# Altium footprint library Powerpcblib.PcbLib: 29 footprints (part 1 of 2)
Each footprint in its own frame and in the unit in brackets; x right, y up, seen from the top. Pads: shape width x height; smd on the part's side, far side on the other; paste and mask are expansions set on the pad; w line width, h text height; cw(c..) or ccw(c..) is an arc to the next point about the centre after c.
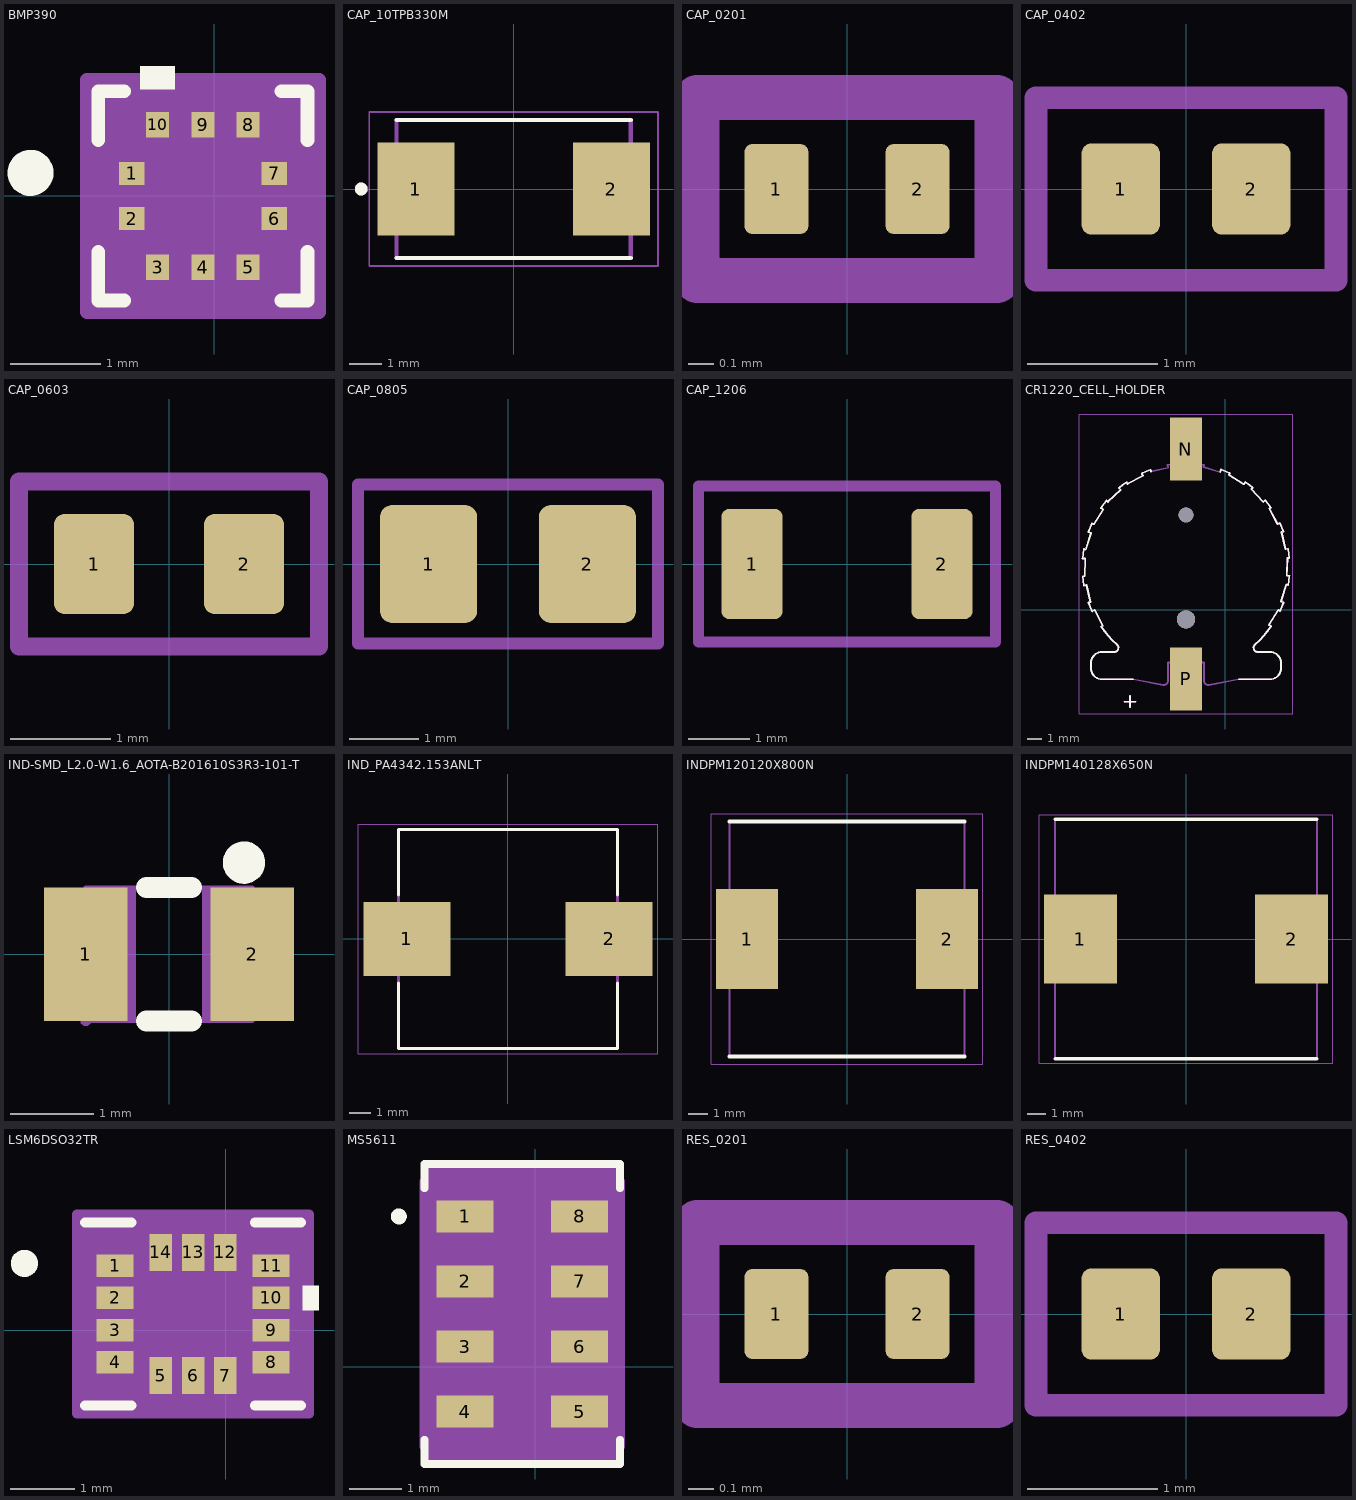
[diagram p0: the footprints below, top view; thin cyan lines are the x and y axes]

## BMP390 [mil]
pads (10):
  rect 11x10 smd paste+0 mask+0: 1(-36,9.84) 2(-36,-9.84) 6(26,-9.84) 7(26,9.84)
  rect 10x11 smd paste+0 mask+0: 3(-24.68,-31) 4(-5,-31) 5(14.69,-31) 8(14.69,31) 9(-5,31) 10(-24.68,31)
Top Overlay:
  circle w10: c-80,10 r5
  region: -17.18,46.5 -32.19,46.5 -32.19,56.5 -17.18,56.5
  lines w6: -50.5,-24.36 -50.5,-45.5 -39.2,-45.5 ; -50.5,24.36 -50.5,45.5 -39.2,45.5 ; 29.2,-45.5 40.5,-45.5 40.5,-24.36 ; 29.2,45.5 40.5,45.5 40.5,24.36
  text ".Designator" at -55,70 h10
Mechanical 13:
  lines w1: -45.5,-9.5 4.5,40.5 ; -45.5,-40.5 35.5,-40.5 35.5,40.5 -45.5,40.5 -45.5,-40.5 ; -45.5,-14.84 -45.5,-4.84 -41.5,-4.84 -41.5,-14.84 -45.5,-14.84 ; -45.5,4.84 -45.5,14.84 -41.5,14.84 -41.5,4.84 -45.5,4.84 ; -29.68,-40.5 -19.68,-40.5 -19.68,-36.5 -29.68,-36.5 -29.68,-40.5 ; -29.68,36.5 -19.68,36.5 -19.68,40.5 -29.68,40.5 -29.68,36.5 ; -10,-40.5 0,-40.5 0,-36.5 -10,-36.5 -10,-40.5 ; -10,36.5 0,36.5 0,40.5 -10,40.5 -10,36.5 ; 9.69,-40.5 19.68,-40.5 19.68,-36.5 9.69,-36.5 9.69,-40.5 ; 9.69,36.5 19.68,36.5 19.68,40.5 9.69,40.5 9.69,36.5 ; 31.5,-14.84 35.5,-14.84 35.5,-4.84 31.5,-4.84 31.5,-14.84 ; 31.5,4.84 35.5,4.84 35.5,14.84 31.5,14.84 31.5,4.84
  text ".Designator" at -55,70 h10
Mechanical 15:
  region: -39.69,-50.5 -55.5,-50.5 -55.5,-24.84 -55.5,24.84 -55.5,50.5 -39.69,50.5 29.68,50.5 45.5,50.5 45.5,24.84 45.5,-24.84 45.5,-50.5 29.68,-50.5
  lines w6: -55.5,-50.5 -55.5,-24.84 -55.5,24.84 -55.5,50.5 -39.69,50.5 29.68,50.5 45.5,50.5 45.5,24.84 45.5,-24.84 45.5,-50.5 29.68,-50.5 -39.69,-50.5 -55.5,-50.5
3D body "10LGA_2X2X0p75_BOS.step": height 32.09, standoff 0, extent -45.51,-40.51 35.51,40.51

## CAP_10TPB330M [mm]
pads (2):
  rect 2.4x2.9 smd: 1(-3.05,0) 2(3.05,0)
Top Overlay:
  circle w0.2: c-4.75,0 r0.1
  lines w0.127: -3.65,-2.15 3.65,-2.15 ; -3.65,2.15 3.65,2.15
Mechanical 13:
  circle w0.2: c-4.75,0 r0.1
  lines w0.127: -3.65,-2.15 3.65,-2.15 3.65,2.15 -3.65,2.15 -3.65,-2.15
Mechanical 15:
  lines w0.05: -4.5,-2.4 4.5,-2.4 4.5,2.4 -4.5,2.4 -4.5,-2.4

## CAP_0201 [mm]
pads (2):
  rrect25% 0.25x0.35 smd mask+0.05: 1(-0.275,0) 2(0.275,0)
Mechanical 13:
  lines w0.175: -0.584,-0.356 0.584,-0.356 0.584,0.356 -0.584,0.356 -0.584,-0.356
  text "'.Designator'" at -5.665,-0.417 h1
3D body "C0201.stp": height 0.34, standoff 0.01, extent -0.315,-0.166 0.315,0.164

## CAP_0402 [mm]
pads (2):
  rrect25% 0.6x0.7 smd: 1(-0.5,0) 2(0.5,0)
Mechanical 13:
  lines w0.175: -1.15,-0.7 1.15,-0.7 1.15,0.7 -1.15,0.7 -1.15,-0.7
  text "'.Designator'" at -5.665,-0.29 h1
3D body "C0402.step": height 0.37, standoff 0.01, extent -0.5,-0.265 0.5,0.265

## CAP_0603 [mm]
pads (2):
  rrect25% 0.8x1 smd: 1(-0.75,0) 2(0.75,0)
Mechanical 13:
  lines w0.175: -1.5,-0.825 -1.5,0.825 1.5,0.825 1.5,-0.825 -1.5,-0.825
  text "'.Designator'" at -5.665,-0.417 h1
3D body "C0603.step": height 0.51, standoff 0.01, extent -0.8,-0.4 0.8,0.4

## CAP_0805 [mm]
pads (2):
  rrect25% 1.4x1.7 smd: 1(-1.143,0) 2(1.143,0)
Mechanical 13:
  lines w0.175: -2.159,-1.143 -2.159,1.143 2.159,1.143 2.159,-1.143 -2.159,-1.143
  text "'.Designator'" at -5.665,-0.417 h1
3D body "C0805.stp": height 1.01, standoff 0.01, extent -1.15,-0.762 1.15,0.788

## CAP_1206 [mm]
pads (2):
  rrect25% 1x1.8 smd: 1(-1.55,0) 2(1.55,0)
Mechanical 13:
  lines w0.175: -2.425,-1.275 -2.425,1.275 2.425,1.275 2.425,-1.275 -2.425,-1.275
  text "'.Designator'" at -5.665,-0.417 h1
3D body "C1206.step": height 0.94, standoff 0, extent -1.6,-0.8 1.6,0.8

## CR1220_CELL_HOLDER [mm]
pads (4):
  rect 2.3x4.5 smd: N(-2.794,11.473) P(-2.794,-4.927)
  round 1.3 hole 1.3 unplated: ""(-2.794,-0.677)
  round 1.05 hole 1.05 unplated: ""(-2.794,6.773)
Top Overlay:
  lines w0.127: -10.168,3.663 -9.974,3.656 -10.023,2.399 -10.166,2.405 ; -10.166,2.403 ccw(c-2.794,3.048) -10.082,1.763 ; -10.166,3.693 cw(c-2.794,3.048) -10.082,4.333 ; -10.081,4.335 -9.944,4.293 -9.572,5.494 -9.758,5.551 ; -10.076,1.733 -9.887,1.776 -9.608,0.55 -9.748,0.518 ; -9.748,0.517 ccw(c-2.794,3.048) -9.501,-0.079 ; -9.748,5.579 cw(c-2.794,3.048) -9.501,6.175 ; -9.5,6.178 -9.378,6.101 -8.708,7.165 -8.873,7.268 ; -9.488,-0.107 -9.316,-0.017 -8.73,-1.129 -8.856,-1.195 ; -8.856,-1.196 ccw(c-2.794,3.048) -7.746,-2.451 ; -8.856,7.292 cw(c-2.794,3.048) -8.463,7.805 ; -8.461,7.807 -8.364,7.702 -7.441,8.556 -7.573,8.698 ; -7.715,-2.479 cw(c-7.915,-2.702) -7.915,-3.002 -8.778,-3.002 ccw(c-8.778,-3.802) -9.578,-3.802 -9.578,-4.152 ccw(c-8.778,-4.152) -8.778,-4.952 -6.558,-4.952 ; -7.551,8.717 cw(c-2.794,3.048) -7.038,9.11 ; -7.194,-6.552 -6.394,-6.552 ; -7.036,9.111 -6.969,8.985 -5.857,9.571 -5.948,9.742 ; -6.794,-6.952 -6.794,-6.152 ; -5.921,9.755 cw(c-2.794,3.048) -5.325,10.002 ; -5.322,10.003 -5.291,9.864 ; -0.347,9.828 -0.29,10.012 ; -0.263,10.002 cw(c-2.794,3.048) 0.333,9.755 ; 0.336,9.753 0.26,9.634 1.324,8.964 1.427,9.126 ; 0.97,-4.952 3.19,-4.952 ccw(c3.19,-4.152) 3.99,-4.152 3.99,-3.802 ccw(c3.19,-3.802) 3.19,-3.002 2.327,-3.002 cw(c2.327,-2.702) 2.127,-2.479 ; 1.45,9.11 cw(c-2.794,3.048) 1.963,8.717 ; 1.965,8.715 1.861,8.619 2.715,7.697 2.856,7.827 ; 2.158,-2.451 ccw(c-2.794,3.048) 3.268,-1.196 ; 2.875,7.805 cw(c-2.794,3.048) 3.268,7.292 ; 3.269,7.291 3.144,7.225 3.731,6.113 3.9,6.202 ; 3.285,-1.171 3.123,-1.069 3.793,-0.005 3.912,-0.08 ; 3.913,-0.079 ccw(c-2.794,3.048) 4.16,0.517 ; 3.913,6.175 cw(c-2.794,3.048) 4.16,5.579 ; 4.16,5.577 4.023,5.546 4.301,4.32 4.488,4.362 ; 4.17,0.546 3.987,0.602 4.359,1.803 4.493,1.762 ; 4.494,1.763 ccw(c-2.794,3.048) 4.578,2.403 ; 4.494,4.333 cw(c-2.794,3.048) 4.578,3.693 ; 4.578,3.691 4.437,3.697 4.389,2.44 4.58,2.433
Mechanical 13:
  lines w0.127: -10.168,3.663 -9.974,3.656 -10.023,2.399 -10.166,2.405 ; -10.166,2.403 ccw(c-2.794,3.048) -10.082,1.763 ; -10.166,3.693 cw(c-2.794,3.048) -10.082,4.333 ; -10.081,4.335 -9.944,4.293 -9.572,5.494 -9.758,5.551 ; -10.076,1.733 -9.887,1.776 -9.608,0.55 -9.748,0.518 ; -9.748,0.517 ccw(c-2.794,3.048) -9.501,-0.079 ; -9.748,5.579 cw(c-2.794,3.048) -9.501,6.175 ; -9.5,6.178 -9.378,6.101 -8.708,7.165 -8.873,7.268 ; -9.488,-0.107 -9.316,-0.017 -8.73,-1.129 -8.856,-1.195 ; -8.856,-1.196 ccw(c-2.794,3.048) -7.746,-2.451 ; -8.856,7.292 cw(c-2.794,3.048) -8.463,7.805 ; -8.461,7.807 -8.364,7.702 -7.441,8.556 -7.573,8.698 ; -7.715,-2.479 cw(c-7.915,-2.702) -7.915,-3.002 -8.778,-3.002 ccw(c-8.778,-3.802) -9.578,-3.802 -9.578,-4.152 ccw(c-8.778,-4.152) -8.778,-4.952 -6.558,-4.952 -4.431,-5.352 ; -7.551,8.717 cw(c-2.794,3.048) -7.038,9.11 ; -7.194,-6.552 -6.394,-6.552 ; -7.036,9.111 -6.969,8.985 -5.857,9.571 -5.948,9.742 ; -6.794,-6.952 -6.794,-6.152 ; -5.921,9.755 cw(c-2.794,3.048) -5.325,10.002 ; -5.322,10.003 -5.291,9.864 -4.065,10.142 -4.107,10.331 ; -4.433,-5.352 ccw(c-4.376,-5.057) -4.076,-5.057 -4.076,-3.762 -1.512,-3.762 -1.512,-5.057 ccw(c-1.212,-5.057) -1.155,-5.352 ; -4.079,10.336 cw(c-2.794,3.048) -3.696,10.393 ; -3.694,10.378 -1.894,10.378 ; -1.892,10.393 cw(c-2.794,3.048) -1.509,10.336 ; -1.506,10.335 -1.548,10.199 -0.347,9.828 -0.29,10.012 ; -1.157,-5.352 0.97,-4.952 3.19,-4.952 ccw(c3.19,-4.152) 3.99,-4.152 3.99,-3.802 ccw(c3.19,-3.802) 3.19,-3.002 2.327,-3.002 cw(c2.327,-2.702) 2.127,-2.479 ; -0.263,10.002 cw(c-2.794,3.048) 0.333,9.755 ; 0.336,9.753 0.26,9.634 1.324,8.964 1.427,9.126 ; 1.45,9.11 cw(c-2.794,3.048) 1.963,8.717 ; 1.965,8.715 1.861,8.619 2.715,7.697 2.856,7.827 ; 2.158,-2.451 ccw(c-2.794,3.048) 3.268,-1.196 ; 2.875,7.805 cw(c-2.794,3.048) 3.268,7.292 ; 3.269,7.291 3.144,7.225 3.731,6.113 3.9,6.202 ; 3.285,-1.171 3.123,-1.069 3.793,-0.005 3.912,-0.08 ; 3.913,-0.079 ccw(c-2.794,3.048) 4.16,0.517 ; 3.913,6.175 cw(c-2.794,3.048) 4.16,5.579 ; 4.16,5.577 4.023,5.546 4.301,4.32 4.488,4.362 ; 4.17,0.546 3.987,0.602 4.359,1.803 4.493,1.762 ; 4.494,1.763 ccw(c-2.794,3.048) 4.578,2.403 ; 4.494,4.333 cw(c-2.794,3.048) 4.578,3.693 ; 4.578,3.691 4.437,3.697 4.389,2.44 4.58,2.433
Mechanical 15:
  lines w0.05: -10.418,-7.427 -10.418,13.973 4.83,13.973 4.83,-7.427 -10.418,-7.427
3D body "step_temp.STEP": height 4.25, standoff -0.95, extent -10.166,-6.552 4.578,12.648

## IND-SMD_L2.0-W1.6_AOTA-B201610S3R3-101-T [mm]
pads (2):
  rect 1x1.6 smd paste+0 mask+0.05: 1(-1,0) 2(1,0)
Top Overlay:
  circle w0.254: c0.9,1.1 r0.127
  lines w0.254: -0.269,-0.8 0.269,-0.8 ; -0.269,0.8 0.269,0.8
Mechanical 6:
  circle w0.254: c1,0.5 r0.127
Mechanical 15:
  region: -0.94,-0.8 -0.94,-0.825 -0.975,-0.86 -1.025,-0.86 -1.06,-0.825 -1.06,-0.8 -1.06,-0.775 -1.025,-0.74 -0.975,-0.74 -0.94,-0.775 -0.94,-0.8
  region: 0.4,0.8 1,0.8 1,-0.8 0.4,-0.8
  region: -1,0.8 -0.4,0.8 -0.4,-0.8 -1,-0.8
  lines w0.051: -1,-0.8 -1,0.8 1,0.8 1,-0.8 -1,-0.8

## IND_PA4342.153ANLT [mm]
height 4
pads (2):
  rect 4.1x3.5 smd: 1(-4.75,0) 2(4.75,0)
Top Overlay:
  lines w0.127: -5.15,-2.07 -5.15,-5.15 5.15,-5.15 5.15,-2.07 ; -5.15,2.07 -5.15,5.15 5.15,5.15 5.15,2.07
Mechanical 13:
  lines w0.127: -5.15,-5.15 5.15,-5.15 5.15,5.15 -5.15,5.15 -5.15,-5.15
Mechanical 15:
  lines w0.05: -7.05,-5.4 -7.05,5.4 7.05,5.4 7.05,-5.4 -7.05,-5.4

## INDPM120120X800N [mm]
pads (2):
  rect 3.15x5.1 smd: 1(-5.1,0) 2(5.1,0)
Top Overlay:
  lines w0.2: -6,-6 6,-6 ; -6,6 6,6
Mechanical 13:
  lines w0.1: -6,-6 -6,6 6,6 6,-6 -6,-6
Mechanical 15:
  lines w0.05: -6.925,-6.4 -6.925,6.4 6.925,6.4 6.925,-6.4 -6.925,-6.4
3D body "CDRH127_LDNP-150MC.stp": height 8, standoff 0, extent -6,-6 6,6

## INDPM140128X650N [mm]
pads (2):
  rect 3.9x4.75 smd: 1(-5.65,0) 2(5.65,0)
Top Overlay:
  lines w0.2: -7,-6.4 7,-6.4 ; -7,6.4 7,6.4
Mechanical 13:
  lines w0.1: -7,-6.4 -7,6.4 7,6.4 7,-6.4 -7,-6.4
Mechanical 15:
  lines w0.05: -7.85,-6.65 -7.85,6.65 7.85,6.65 7.85,-6.65 -7.85,-6.65
3D body "PA4343.153NLT.stp": height 6.5, standoff 0, extent -7,-6.4 7,6.4

## LSM6DSO32TR [mil]
pads (14):
  rect 22.7x13.84 smd paste+0 mask+4: 1(-67.65,39.53) 2(-67.65,19.84) 3(-67.65,0.16) 4(-67.65,-19.53) 8(27.65,-19.53) 9(27.65,0.16) 10(27.65,19.84) 11(27.65,39.53)
  rect 13.84x22.7 smd paste+0 mask+4: 5(-39.69,-27.65) 6(-20,-27.65) 7(-0.32,-27.65) 12(-0.32,47.65) 13(-20,47.65) 14(-39.69,47.65)
Top Overlay:
  circle w10: c-123.16,40.93 r3.29
  region: 47,27.34 57,27.34 57,12.34 47,12.34
  lines w6: -86,-46 -57.68,-46 ; -86,66 -57.68,66 ; 17.68,-46 46,-46 ; 17.68,66 46,66
  text ".Designator" at -90,95 h20
Mechanical 13:
  lines w1: -81,11 -31,61 ; -81,-41 -81,61 41,61 41,-41 -81,-41 ; -81,-24.45 -77,-24.45 -77,-14.61 -81,-14.61 -81,-24.45 ; -81,-4.76 -77,-4.76 -77,5.08 -81,5.08 -81,-4.76 ; -81,14.92 -77,14.92 -77,24.76 -81,24.76 -81,14.92 ; -81,34.61 -77,34.61 -77,44.45 -81,44.45 -81,34.61 ; -44.61,-41 -44.61,-37 -34.76,-37 -34.76,-41 -44.61,-41 ; -44.61,57 -44.61,61 -34.76,61 -34.76,57 -44.61,57 ; -24.92,-41 -24.92,-37 -15.08,-37 -15.08,-41 -24.92,-41 ; -24.92,57 -24.92,61 -15.08,61 -15.08,57 -24.92,57 ; -5.24,-41 -5.24,-37 4.61,-37 4.61,-41 -5.24,-41 ; -5.24,57 -5.24,61 4.61,61 4.61,57 -5.24,57 ; 37,-24.45 37,-14.61 41,-14.61 41,-24.45 37,-24.45 ; 37,-4.76 37,5.08 41,5.08 41,-4.76 37,-4.76 ; 37,14.92 37,24.76 41,24.76 41,14.92 37,14.92 ; 37,34.61 37,44.45 41,44.45 41,34.61 37,34.61
  text "*" at -70.8,24.37 h50
  text ".Designator" at -90,95 h20
Mechanical 15:
  region: -54.61,-51 -91,-51 -91,-34.45 -91,54.45 -91,71 -54.61,71 14.61,71 51,71 51,54.45 51,-34.45 51,-51 14.61,-51
  lines w6: -91,-51 -54.61,-51 14.61,-51 51,-51 51,-34.45 51,54.45 51,71 14.61,71 -54.61,71 -91,71 -91,54.45 -91,-34.45 -91,-51
3D body "LGA-14L_2P5X3X0P83_STM.step": height 34.09, standoff 0, extent -80.98,-40.98 40.98,60.98

## MS5611 [mil]
pads (8):
  rect 43x24 smd paste-12 mask+0: 1(-53.31,113.82) 2(-53.31,64.61) 3(-53.31,15.39) 4(-53.31,-33.82) 5(33.31,-33.82) 6(33.31,15.39) 7(33.31,64.61) 8(33.31,113.82)
Top Overlay:
  circle w6: c-103.41,113.82 r3
  lines w6: -84,-55.15 -84,-73.5 64,-73.5 64,-55.15 ; -84,135.15 -84,153.5 64,153.5 64,135.15
  text ".Designator" at -85,180 h20
Top Paste:
  region: -31.81,125.82 -74.81,125.82 -74.81,101.82 -31.81,101.82
  region: -31.81,76.61 -74.81,76.61 -74.81,52.61 -31.81,52.61
  region: -31.81,27.39 -74.81,27.39 -74.81,3.39 -31.81,3.39
  region: -31.81,-21.82 -74.81,-21.82 -74.81,-45.82 -31.81,-45.82
  region: 54.81,-21.82 11.81,-21.82 11.81,-45.82 54.81,-45.82
  region: 54.81,27.39 11.81,27.39 11.81,3.39 54.81,3.39
  region: 54.81,76.61 11.81,76.61 11.81,52.61 54.81,52.61
  region: 54.81,125.82 11.81,125.82 11.81,101.82 54.81,101.82
Top Solder:
  region: -31.81,125.82 -74.81,125.82 -74.81,101.82 -31.81,101.82
  region: -31.81,76.61 -74.81,76.61 -74.81,52.61 -31.81,52.61
  region: -31.81,27.39 -74.81,27.39 -74.81,3.39 -31.81,3.39
  region: -31.81,-21.82 -74.81,-21.82 -74.81,-45.82 -31.81,-45.82
  region: 54.81,-21.82 11.81,-21.82 11.81,-45.82 54.81,-45.82
  region: 54.81,27.39 11.81,27.39 11.81,3.39 54.81,3.39
  region: 54.81,76.61 11.81,76.61 11.81,52.61 54.81,52.61
  region: 54.81,125.82 11.81,125.82 11.81,101.82 54.81,101.82
Mechanical 13:
  circle w1: c-20,113.82 r3
  lines w1: -22,138.5 ccw(c-10,138.5) 2,138.5 ; -69,-58.5 49,-58.5 49,138.5 -69,138.5 -69,-58.5
  text ".Designator" at -85,180 h20
Mechanical 15:
  region: -79,-60.43 -84.81,-60.43 -84.81,140.43 -79,140.43 -79,148.5 59,148.5 59,140.43 64.81,140.43 64.81,-60.43 59,-60.43 59,-68.5 -79,-68.5
  lines w6: -84.81,-60.43 -84.81,140.43 -79,140.43 -79,148.5 59,148.5 59,140.43 64.81,140.43 64.81,-60.43 59,-60.43 59,-68.5 -79,-68.5 -79,-60.43 -84.81,-60.43

## RES_0201 [mm]
pads (2):
  rrect25% 0.25x0.35 smd mask+0.05: 1(-0.275,0) 2(0.275,0)
Mechanical 13:
  lines w0.175: -0.584,-0.356 0.584,-0.356 0.584,0.356 -0.584,0.356 -0.584,-0.356
  text "'.Designator'" at -5.665,-0.417 h1
3D body "R0201.step": height 0.15, standoff 0, extent -0.3,-0.15 0.3,0.15

## RES_0402 [mm]
pads (2):
  rrect25% 0.6x0.7 smd: 1(-0.5,0) 2(0.5,0)
Mechanical 13:
  lines w0.175: -1.15,-0.7 -1.15,0.7 1.15,0.7 1.15,-0.7 -1.15,-0.7
  text "'.Designator'" at -5.665,-0.417 h1
3D body "R0402.step": height 0.3, standoff 0, extent -0.5,-0.25 0.5,0.25